# EAGLE library part ADN4668 (library hurst)
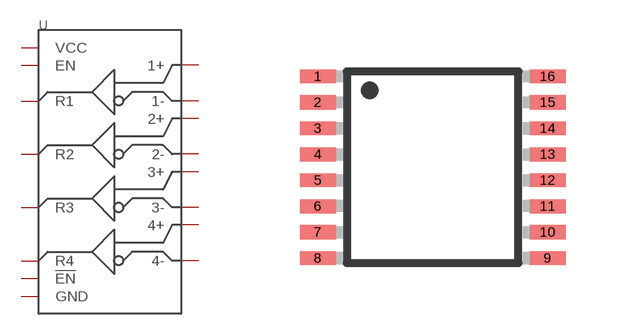
[diagram p7: symbol with the pads of TSSOP16; footprint TSSOP16]

Designator prefix -

## ADN4668  [TSSOP16]
1  1-
2  1+
3  2+
4  2-
5  3-
6  3+
7  4+
8  4-
9  !EN
10  R4
11  R3
12  GND
13  VCC
14  R2
15  R1
16  EN

## Footprint TSSOP16 (pad centres in mm)
16-Lead Thin Shrink Small Outline Package [TSSOP] (RU-16) Source: 8x ADG1408_1409.pdf
smd 0.9 x 0.35: 1 -2.875,2.275; 2 -2.875,1.625; 3 -2.875,0.975; 4 -2.875,0.325; 5 -2.875,-0.325; 6 -2.875,-0.975; 7 -2.875,-1.625; 8 -2.875,-2.275; 9 2.875,-2.275; 10 2.875,-1.625; 11 2.875,-0.975; 12 2.875,-0.325; 13 2.875,0.325; 14 2.875,0.975; 15 2.875,1.625; 16 2.875,2.275